# Altium schematic symbol library Capacitors.SchLib: 7 symbols
Pins are listed as number, name and electrical type; pins without a type are passive.

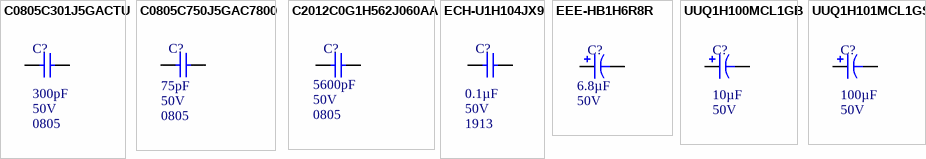
[diagram p0: symbols C0805C301J5GACTU to UUQ1H101MCL1GS]

## C0805C301J5GACTU
designator C?  Capacitance: 300pF  Voltage - Rated: 50V  Package / Case: 0805  (hidden comment: *)
CAP CER 300PF 50V C0G/NP0 0805; Tolerance: ±5%; Temperature Coefficient: C0G, NP0; Supplier 1: Digi-Key; Supplier Part Number 1: 399-9220-1-ND
footprint CAP0805 (Chip Capacitor, 2-Leads, Body 2.00x1.25mm, IPC Medium Density)
pins: 1, 2

## C0805C750J5GAC7800
designator C?  Capacitance: 75pF  Voltage - Rated: 50V  Package: 0805  (hidden comment: *)
CAP CER 75PF 50V NP0 0805; Supplier 1: Digi-Key; Supplier Part Number 1: 399-14632-1-ND; Features: Low ESL
footprint CAP0805 (Chip Capacitor, 2-Leads, Body 2.00x1.25mm, IPC Medium Density)
pins: 1, 2

## C2012C0G1H562J060AA
designator C?  Capacitance: 5600pF  Voltage - Rated: 50V  Package: 0805  (hidden comment: *)
CAP CER 5600PF 50V C0G 0805; Temperature Coefficient: C0G, NP0; Supplier 1: Digi-Key; Supplier Part Number 1: 445-7513-1-ND; Features: Low ESL
footprint CAP0805 (Chip Capacitor, 2-Leads, Body 2.00x1.25mm, IPC Medium Density)
pins: 1, 2

## ECH-U1H104JX9
designator C?  Capacitance: 0.1µF  Voltage Rating - DC: 50V  Package / Case: 1913  (hidden comment: *)
CAP FILM 0.1UF 5% 50VDC 1913; Supplier 1: Digi-Key; Supplier Part Number 1: PCF1561CT-ND; Tolerance: ±5%
footprint CAP1913 (Chip Capacitor, 2-Leads, Body 4.80x3.30mm, IPC Low Density)
pins: 1, 2

## EEE-HB1H6R8R
designator C?  Capacitance: 6.8µF  Voltage - Rated: 50V  (hidden comment: *)
CAP ALUM 6.8UF 20% 50V SMD; Supplier 1: Digi-Key; Supplier Part Number 1: PCE4148CT-ND; Tolerance: ±20%
footprint CAPAE6253X61M (Aluminum Electrolytic Capacitor, Body 5.30x5.30x6.10mm, IPC Low Density)
pins: 1, 2

## UUQ1H100MCL1GB
designator C?  Voltage - Rated: 50V  Capacitance: 10µF  (hidden comment: *)
CAP ALUM 10UF 20% 50V SMD; Tolerance: ±20%; Package / Case: Radial, Can - SMD; Supplier 1: Digi-Key; Supplier Part Number 1: 493-3208-1-ND
footprint CAPAE7166X57M (Aluminum Electrolytic Capacitor, Body 6.60x6.60x5.70mm, IPC Low Density)
pins: 1, 2

## UUQ1H101MCL1GS
designator C?  Capacitance: 100µF  Voltage - Rated: 50V  (hidden comment: *)
CAP ALUM 100UF 20% 50V SMD; Supplier 1: Digi-Key; Supplier Part Number 1: 493-3209-1-ND; Tolerance: ±20%
footprint CAPAE109103X103M (Aluminum Electrolytic Capacitor, Body 10.30x10.30x10.30mm, IPC Low Density)
pins: 1, 2